# EAGLE library part SN74LVC2G34 (library kicker_controller)
1. Features: Available in the Texas Instruments NanoFreeTM Package Supports 5.5 V VCC Operation Inputs Accept Voltages to 5.5 V Maximum tpd of 4.1 ns at 3.3 V Low Power Consumption, 10 µA Maximum ICC ±24 mA Output Drive at 3.3 V Typical VOLP (Output Ground Bounce) <0.8 V at VCC = 3.3 V, TA = 25 °C Typical VOHV (Output VOH Undershoot) >2 V at VCC = 3.3 V, TA = 25 °C Ioff Supports Live Insertion, Partial-Power-Down Mode, and Back-Drive Protection Can Be Used as a Down Translator to Translate Inputs From a Maximum of 5.5 V Down to the VCC Level Latch-Up Performance Exceeds 100 mA Per JESD 78, Class II ESD Protection Exceeds JESD 22 2000 V Human Body Model (A114-A) 200 V Machine Model (A115-A) 1000 V Charged-Device Model (C101) 2. Applications AV Receivers Audio Docks: Portable Blu-ray Players and Home Theaters DVD Recorders and Players Embedded PCs MP3 Players and Recorders (Portable Audio) Personal Digital Assistent (PDA) Power: Telecom/Server AC/DC Supply: Single Controller: Analog and Digital Solid-State Drive (SSD): Client and Enterprise TV: LCD/Digital and High-Definition (HDTV) Tablets: Enterprise Video Analytics: Servers Wireless Headsets, Keyboards, and Mice 3. Description The SN74LVC2G34 device is a dual buffer gate designed for 1.65 V to 5.5 V VCC operation. The SN74LVC2G34 device performs the Boolean function Y = A in positive logic. NanoFree package technology is a major breakthrough in IC packaging concepts, using the die as the package. This device is fully specified for partial-power-down applications using Ioff. The Ioff circuitry disables the outputs, preventing damaging current backflow through the device when it is powered down.
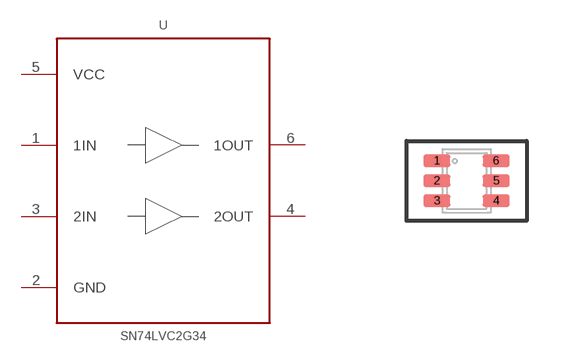
[diagram p1: symbol with the pads of SOT; footprint SOT]

Designator prefix U

## SN74LVC2G34 (MF: Texas Instruments; MOUSER: 595-SN74LVC2G34DRLR; MPN: SN74LVC2G34)  [SOT]
1  1IN  in
2  GND  pwr
3  2IN  in
4  2OUT  out
5  VCC  pwr
6  1OUT  out

## Footprint SOT (pad centres in mm)
smd 0.67 x 0.3: 1 -0.74,0.5; 2 -0.74,0; 3 -0.74,-0.5; 4 0.74,-0.5; 5 0.74,0; 6 0.74,0.5